# EAGLE library part ESP32_NEW (library LocalLib)
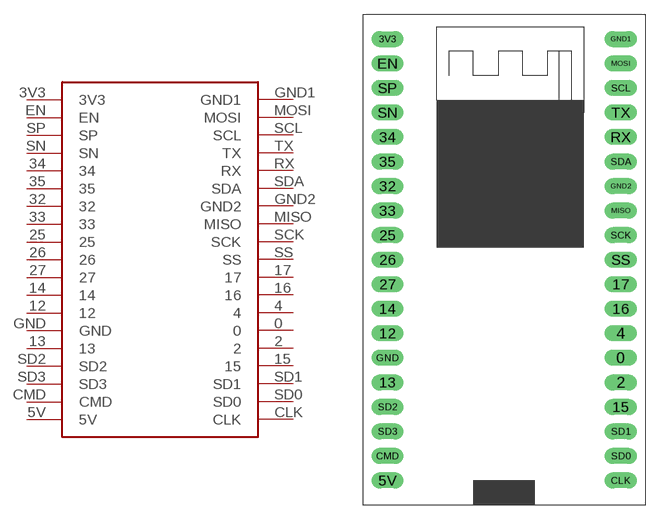
[diagram p2: symbol with the pads of ESP32_NEW; footprint ESP32_NEW]

Designator prefix -

## ESP32_NEW  [ESP32_NEW]
0  0
2  2
3V3  3V3
4  4
5V  5V
12  12
13  13
14  14
15  15
16  16
17  17
25  25
26  26
27  27
32  32
33  33
34  34
35  35
CLK  CLK
CMD  CMD
EN  EN
GND  GND
GND1  GND1
GND2  GND2
MISO  MISO
MOSI  MOSI
RX  RX
SCK  SCK
SCL  SCL
SD0  SD0
SD1  SD1
SD2  SD2
SD3  SD3
SDA  SDA
SN  SN
SP  SP
SS  SS
TX  TX

## Footprint ESP32_NEW (pad centres in mm)
drill 1 pad 1.676 long: 0 26.67,15.24; 2 26.67,12.7; 3V3 2.54,48.26; 4 26.67,17.78; 5V 2.54,2.54; 12 2.54,17.78; 13 2.54,12.7; 14 2.54,20.32; 15 26.67,10.16; 16 26.67,20.32; 17 26.67,22.86; 25 2.54,27.94; 26 2.54,25.4; 27 2.54,22.86; 32 2.54,33.02; 33 2.54,30.48; 34 2.54,38.1; 35 2.54,35.56; CLK 26.67,2.54; CMD 2.54,5.08; EN 2.54,45.72; GND 2.54,15.24; GND1 26.67,48.26; GND2 26.67,33.02; MISO 26.67,30.48; MOSI 26.67,45.72; RX 26.67,38.1; SCK 26.67,27.94; SCL 26.67,43.18; SD0 26.67,5.08; SD1 26.67,7.62; SD2 2.54,10.16; SD3 2.54,7.62; SDA 26.67,35.56; SN 2.54,40.64; SP 2.54,43.18; SS 26.67,25.4; TX 26.67,40.64